# Altium footprint library Actel Footprints.PcbLib: 111 footprints (part 2 of 10)
Each footprint in its own frame and in the unit in brackets; x right, y up, seen from the top. Pads: shape width x height; smd on the part's side, far side on the other; paste and mask are expansions set on the pad; w line width, h text height; cw(c..) or ccw(c..) is an arc to the next point about the centre after c.
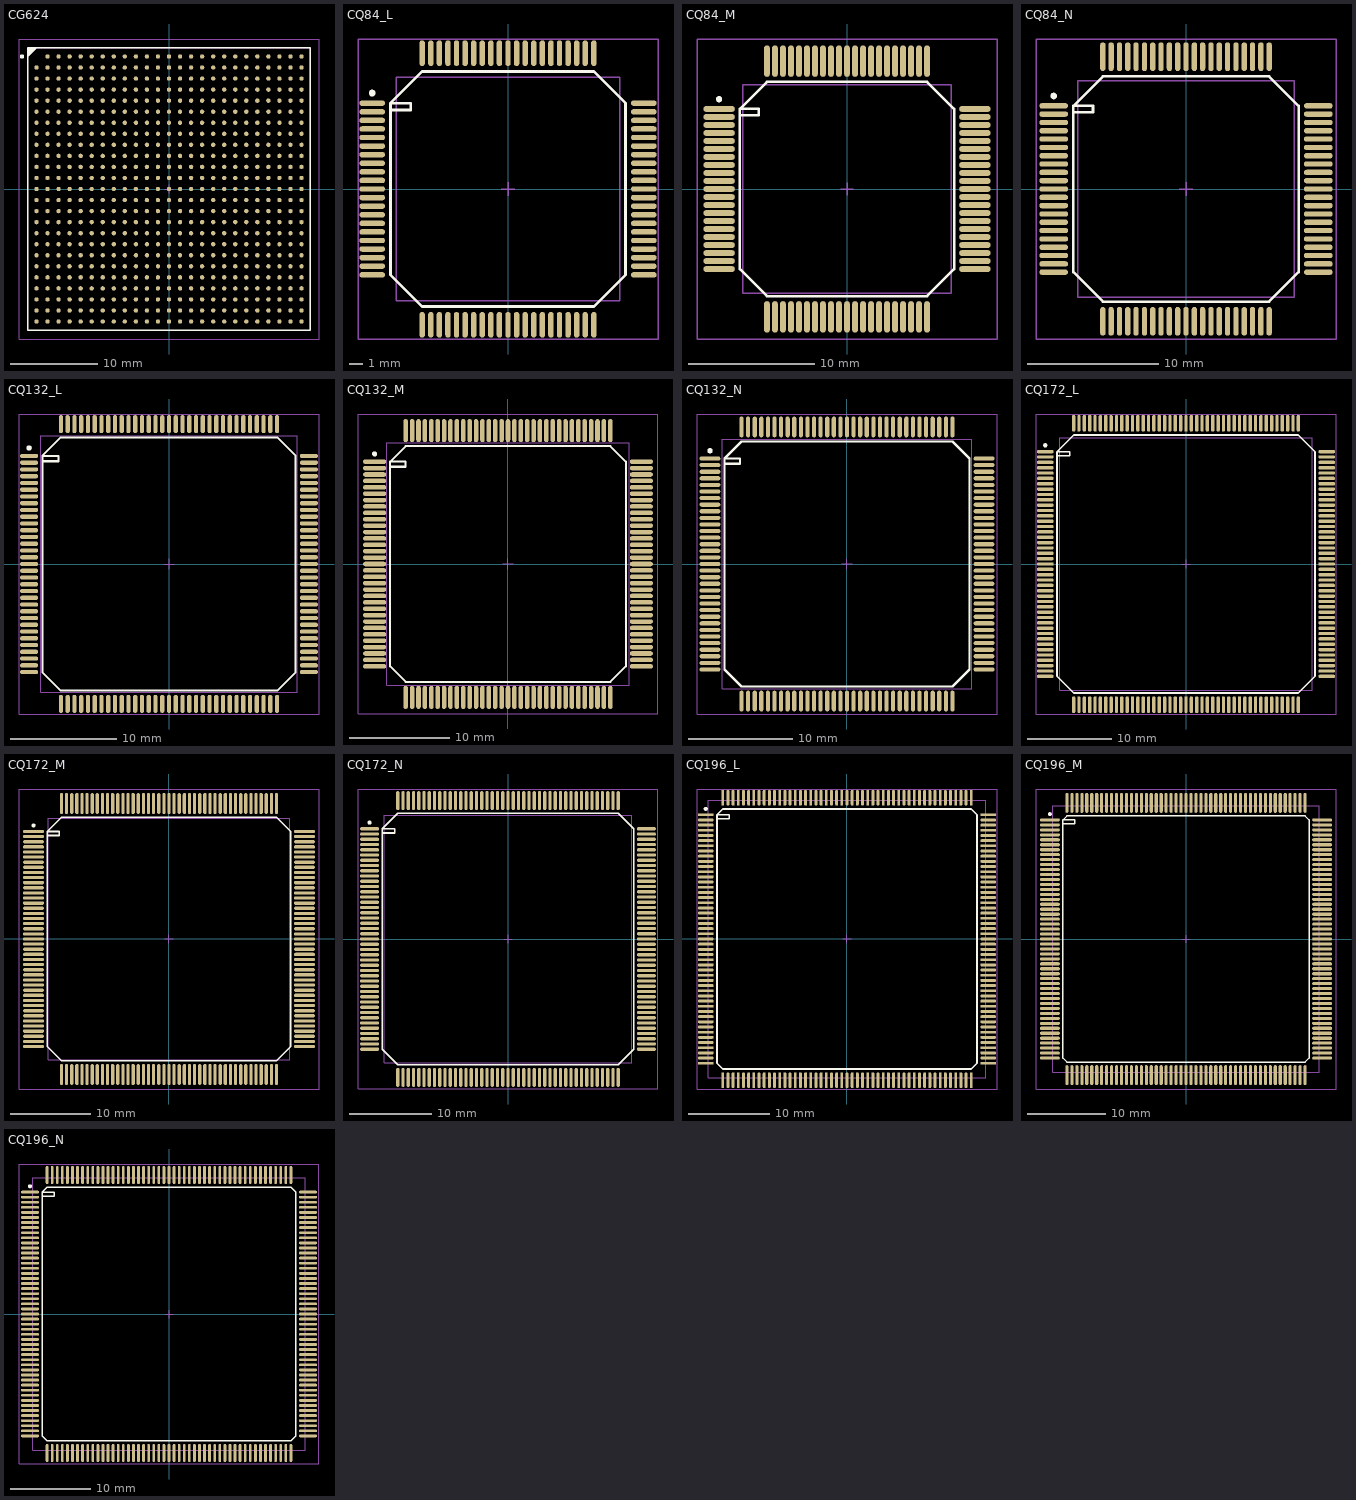
[diagram p1: the footprints below, top view; thin cyan lines are the x and y axes]

## CG624 [mm] "625-Pin Ceramic Column Grid Array 1.27 mm Pitch"
height 5.37
pads (624):
  round 0.5 smd: A2(-13.97,15.24) A3(-12.7,15.24) A4(-11.43,15.24) A5(-10.16,15.24) A6(-8.89,15.24) A7(-7.62,15.24) A8(-6.35,15.24) A9(-5.08,15.24) A10(-3.81,15.24) A11(-2.54,15.24) A12(-1.27,15.24) A13(0,15.24) A14(1.27,15.24) A15(2.54,15.24) A16(3.81,15.24) A17(5.08,15.24) A18(6.35,15.24) A19(7.62,15.24) A20(8.89,15.24) A21(10.16,15.24) A22(11.43,15.24) A23(12.7,15.24) A24(13.97,15.24) A25(15.24,15.24) AA1(-15.24,-10.16) AA2(-13.97,-10.16) AA3(-12.7,-10.16) AA4(-11.43,-10.16) AA5(-10.16,-10.16) AA6(-8.89,-10.16) AA7(-7.62,-10.16) AA8(-6.35,-10.16) AA9(-5.08,-10.16) AA10(-3.81,-10.16) AA11(-2.54,-10.16) AA12(-1.27,-10.16) AA13(0,-10.16) AA14(1.27,-10.16) AA15(2.54,-10.16) AA16(3.81,-10.16) AA17(5.08,-10.16) AA18(6.35,-10.16) AA19(7.62,-10.16) AA20(8.89,-10.16) AA21(10.16,-10.16) AA22(11.43,-10.16) AA23(12.7,-10.16) AA24(13.97,-10.16) AA25(15.24,-10.16) AB1(-15.24,-11.43) AB2(-13.97,-11.43) AB3(-12.7,-11.43) AB4(-11.43,-11.43) AB5(-10.16,-11.43) AB6(-8.89,-11.43) AB7(-7.62,-11.43) AB8(-6.35,-11.43) AB9(-5.08,-11.43) AB10(-3.81,-11.43) AB11(-2.54,-11.43) AB12(-1.27,-11.43) AB13(0,-11.43) AB14(1.27,-11.43) AB15(2.54,-11.43) AB16(3.81,-11.43) AB17(5.08,-11.43) AB18(6.35,-11.43) AB19(7.62,-11.43) AB20(8.89,-11.43) AB21(10.16,-11.43) AB22(11.43,-11.43) AB23(12.7,-11.43) AB24(13.97,-11.43) AB25(15.24,-11.43) AC1(-15.24,-12.7) AC2(-13.97,-12.7) AC3(-12.7,-12.7) AC4(-11.43,-12.7) AC5(-10.16,-12.7) AC6(-8.89,-12.7) AC7(-7.62,-12.7) AC8(-6.35,-12.7) AC9(-5.08,-12.7) AC10(-3.81,-12.7) AC11(-2.54,-12.7) AC12(-1.27,-12.7) AC13(0,-12.7) AC14(1.27,-12.7) AC15(2.54,-12.7) AC16(3.81,-12.7) AC17(5.08,-12.7) AC18(6.35,-12.7) AC19(7.62,-12.7) AC20(8.89,-12.7) AC21(10.16,-12.7) AC22(11.43,-12.7) AC23(12.7,-12.7) AC24(13.97,-12.7) AC25(15.24,-12.7) AD1(-15.24,-13.97) AD2(-13.97,-13.97) AD3(-12.7,-13.97) AD4(-11.43,-13.97) AD5(-10.16,-13.97) AD6(-8.89,-13.97) AD7(-7.62,-13.97) AD8(-6.35,-13.97) AD9(-5.08,-13.97) AD10(-3.81,-13.97) AD11(-2.54,-13.97) AD12(-1.27,-13.97) AD13(0,-13.97) AD14(1.27,-13.97) AD15(2.54,-13.97) AD16(3.81,-13.97) AD17(5.08,-13.97) AD18(6.35,-13.97) AD19(7.62,-13.97) AD20(8.89,-13.97) AD21(10.16,-13.97) AD22(11.43,-13.97) AD23(12.7,-13.97) AD24(13.97,-13.97) AD25(15.24,-13.97) AE1(-15.24,-15.24) AE2(-13.97,-15.24) AE3(-12.7,-15.24) AE4(-11.43,-15.24) AE5(-10.16,-15.24) AE6(-8.89,-15.24) AE7(-7.62,-15.24) AE8(-6.35,-15.24) AE9(-5.08,-15.24) AE10(-3.81,-15.24) AE11(-2.54,-15.24) AE12(-1.27,-15.24) AE13(0,-15.24) AE14(1.27,-15.24) AE15(2.54,-15.24) AE16(3.81,-15.24) AE17(5.08,-15.24) AE18(6.35,-15.24) AE19(7.62,-15.24) AE20(8.89,-15.24) AE21(10.16,-15.24) AE22(11.43,-15.24) AE23(12.7,-15.24) AE24(13.97,-15.24) AE25(15.24,-15.24) B1(-15.24,13.97) B2(-13.97,13.97) B3(-12.7,13.97) B4(-11.43,13.97) B5(-10.16,13.97) B6(-8.89,13.97) B7(-7.62,13.97) B8(-6.35,13.97) B9(-5.08,13.97) B10(-3.81,13.97) B11(-2.54,13.97) B12(-1.27,13.97) B13(0,13.97) B14(1.27,13.97) B15(2.54,13.97) B16(3.81,13.97) B17(5.08,13.97) B18(6.35,13.97) B19(7.62,13.97) B20(8.89,13.97) B21(10.16,13.97) B22(11.43,13.97) B23(12.7,13.97) B24(13.97,13.97) B25(15.24,13.97) C1(-15.24,12.7) C2(-13.97,12.7) C3(-12.7,12.7) C4(-11.43,12.7) C5(-10.16,12.7) C6(-8.89,12.7) C7(-7.62,12.7) C8(-6.35,12.7) C9(-5.08,12.7) C10(-3.81,12.7) C11(-2.54,12.7) C12(-1.27,12.7) C13(0,12.7) C14(1.27,12.7) C15(2.54,12.7) C16(3.81,12.7) C17(5.08,12.7) C18(6.35,12.7) C19(7.62,12.7) C20(8.89,12.7) C21(10.16,12.7) C22(11.43,12.7) C23(12.7,12.7) C24(13.97,12.7) C25(15.24,12.7) D1(-15.24,11.43) D2(-13.97,11.43) D3(-12.7,11.43) D4(-11.43,11.43) D5(-10.16,11.43) D6(-8.89,11.43) D7(-7.62,11.43) D8(-6.35,11.43) D9(-5.08,11.43) D10(-3.81,11.43) D11(-2.54,11.43) D12(-1.27,11.43) D13(0,11.43) D14(1.27,11.43) D15(2.54,11.43) D16(3.81,11.43) D17(5.08,11.43) D18(6.35,11.43) D19(7.62,11.43) D20(8.89,11.43) D21(10.16,11.43) D22(11.43,11.43) D23(12.7,11.43) D24(13.97,11.43) D25(15.24,11.43) E1(-15.24,10.16) E2(-13.97,10.16) E3(-12.7,10.16) E4(-11.43,10.16) E5(-10.16,10.16) E6(-8.89,10.16) E7(-7.62,10.16) E8(-6.35,10.16) E9(-5.08,10.16) E10(-3.81,10.16) E11(-2.54,10.16) E12(-1.27,10.16) E13(0,10.16) E14(1.27,10.16) E15(2.54,10.16) E16(3.81,10.16) E17(5.08,10.16) E18(6.35,10.16) E19(7.62,10.16) E20(8.89,10.16) E21(10.16,10.16) E22(11.43,10.16) E23(12.7,10.16) E24(13.97,10.16) E25(15.24,10.16) F1(-15.24,8.89) F2(-13.97,8.89) F3(-12.7,8.89) F4(-11.43,8.89) F5(-10.16,8.89) F6(-8.89,8.89) F7(-7.62,8.89) F8(-6.35,8.89) F9(-5.08,8.89) F10(-3.81,8.89) F11(-2.54,8.89) F12(-1.27,8.89) F13(0,8.89) F14(1.27,8.89) F15(2.54,8.89) F16(3.81,8.89) F17(5.08,8.89) F18(6.35,8.89) F19(7.62,8.89) F20(8.89,8.89) F21(10.16,8.89) F22(11.43,8.89) F23(12.7,8.89) F24(13.97,8.89) F25(15.24,8.89) G1(-15.24,7.62) G2(-13.97,7.62) G3(-12.7,7.62) G4(-11.43,7.62) G5(-10.16,7.62) G6(-8.89,7.62) G7(-7.62,7.62) G8(-6.35,7.62) G9(-5.08,7.62) G10(-3.81,7.62) G11(-2.54,7.62) G12(-1.27,7.62) G13(0,7.62) G14(1.27,7.62) G15(2.54,7.62) G16(3.81,7.62) G17(5.08,7.62) G18(6.35,7.62) G19(7.62,7.62) G20(8.89,7.62) G21(10.16,7.62) G22(11.43,7.62) G23(12.7,7.62) G24(13.97,7.62) G25(15.24,7.62) H1(-15.24,6.35) H2(-13.97,6.35) H3(-12.7,6.35) H4(-11.43,6.35) H5(-10.16,6.35) H6(-8.89,6.35) H7(-7.62,6.35) H8(-6.35,6.35) H9(-5.08,6.35) H10(-3.81,6.35) H11(-2.54,6.35) H12(-1.27,6.35) H13(0,6.35) H14(1.27,6.35) H15(2.54,6.35) H16(3.81,6.35) H17(5.08,6.35) H18(6.35,6.35) H19(7.62,6.35) H20(8.89,6.35) H21(10.16,6.35) H22(11.43,6.35) H23(12.7,6.35) H24(13.97,6.35) H25(15.24,6.35) J1(-15.24,5.08) J2(-13.97,5.08) J3(-12.7,5.08) J4(-11.43,5.08) J5(-10.16,5.08) J6(-8.89,5.08) J7(-7.62,5.08) J8(-6.35,5.08) J9(-5.08,5.08) J10(-3.81,5.08) J11(-2.54,5.08) J12(-1.27,5.08) J13(0,5.08) J14(1.27,5.08) J15(2.54,5.08) J16(3.81,5.08) J17(5.08,5.08) J18(6.35,5.08) J19(7.62,5.08) J20(8.89,5.08) J21(10.16,5.08) J22(11.43,5.08) J23(12.7,5.08) J24(13.97,5.08) J25(15.24,5.08) K1(-15.24,3.81) K2(-13.97,3.81) K3(-12.7,3.81) K4(-11.43,3.81) K5(-10.16,3.81) K6(-8.89,3.81) K7(-7.62,3.81) K8(-6.35,3.81) K9(-5.08,3.81) K10(-3.81,3.81) K11(-2.54,3.81) K12(-1.27,3.81) K13(0,3.81) K14(1.27,3.81) K15(2.54,3.81) K16(3.81,3.81) K17(5.08,3.81) K18(6.35,3.81) K19(7.62,3.81) K20(8.89,3.81) K21(10.16,3.81) K22(11.43,3.81) K23(12.7,3.81) K24(13.97,3.81) K25(15.24,3.81) L1(-15.24,2.54) L2(-13.97,2.54) L3(-12.7,2.54) L4(-11.43,2.54) L5(-10.16,2.54) L6(-8.89,2.54) L7(-7.62,2.54) L8(-6.35,2.54) L9(-5.08,2.54) L10(-3.81,2.54) L11(-2.54,2.54) L12(-1.27,2.54) L13(0,2.54) L14(1.27,2.54) L15(2.54,2.54) L16(3.81,2.54) L17(5.08,2.54) L18(6.35,2.54) L19(7.62,2.54) L20(8.89,2.54) L21(10.16,2.54) L22(11.43,2.54) L23(12.7,2.54) L24(13.97,2.54) L25(15.24,2.54) M1(-15.24,1.27) M2(-13.97,1.27) M3(-12.7,1.27) M4(-11.43,1.27) M5(-10.16,1.27) M6(-8.89,1.27) M7(-7.62,1.27) M8(-6.35,1.27) M9(-5.08,1.27) M10(-3.81,1.27) M11(-2.54,1.27) M12(-1.27,1.27) M13(0,1.27) M14(1.27,1.27) M15(2.54,1.27) M16(3.81,1.27) M17(5.08,1.27) M18(6.35,1.27) M19(7.62,1.27) M20(8.89,1.27) M21(10.16,1.27) M22(11.43,1.27) M23(12.7,1.27) M24(13.97,1.27) M25(15.24,1.27) N1(-15.24,0) N2(-13.97,0) N3(-12.7,0) N4(-11.43,0) N5(-10.16,0) N6(-8.89,0) N7(-7.62,0) N8(-6.35,0) N9(-5.08,0) N10(-3.81,0) N11(-2.54,0) N12(-1.27,0) N13(0,0) N14(1.27,0) N15(2.54,0) N16(3.81,0) N17(5.08,0) N18(6.35,0) N19(7.62,0) N20(8.89,0) N21(10.16,0) N22(11.43,0) N23(12.7,0) N24(13.97,0) N25(15.24,0) P1(-15.24,-1.27) P2(-13.97,-1.27) P3(-12.7,-1.27) P4(-11.43,-1.27) P5(-10.16,-1.27) P6(-8.89,-1.27) P7(-7.62,-1.27) P8(-6.35,-1.27) P9(-5.08,-1.27) P10(-3.81,-1.27) P11(-2.54,-1.27) P12(-1.27,-1.27) P13(0,-1.27) P14(1.27,-1.27) P15(2.54,-1.27) P16(3.81,-1.27) P17(5.08,-1.27) P18(6.35,-1.27) P19(7.62,-1.27) P20(8.89,-1.27) P21(10.16,-1.27) P22(11.43,-1.27) P23(12.7,-1.27) P24(13.97,-1.27) P25(15.24,-1.27) R1(-15.24,-2.54) R2(-13.97,-2.54) R3(-12.7,-2.54) R4(-11.43,-2.54) R5(-10.16,-2.54) R6(-8.89,-2.54) R7(-7.62,-2.54) R8(-6.35,-2.54) R9(-5.08,-2.54) R10(-3.81,-2.54) R11(-2.54,-2.54) R12(-1.27,-2.54) R13(0,-2.54) R14(1.27,-2.54) R15(2.54,-2.54) R16(3.81,-2.54) R17(5.08,-2.54) R18(6.35,-2.54) R19(7.62,-2.54) R20(8.89,-2.54) R21(10.16,-2.54) R22(11.43,-2.54) R23(12.7,-2.54) R24(13.97,-2.54) R25(15.24,-2.54) T1(-15.24,-3.81) T2(-13.97,-3.81) T3(-12.7,-3.81) T4(-11.43,-3.81) T5(-10.16,-3.81) T6(-8.89,-3.81) T7(-7.62,-3.81) T8(-6.35,-3.81) T9(-5.08,-3.81) T10(-3.81,-3.81) T11(-2.54,-3.81) T12(-1.27,-3.81) T13(0,-3.81) T14(1.27,-3.81) T15(2.54,-3.81) T16(3.81,-3.81) T17(5.08,-3.81) T18(6.35,-3.81) T19(7.62,-3.81) T20(8.89,-3.81) T21(10.16,-3.81) T22(11.43,-3.81) T23(12.7,-3.81) T24(13.97,-3.81) T25(15.24,-3.81) U1(-15.24,-5.08) U2(-13.97,-5.08) U3(-12.7,-5.08) U4(-11.43,-5.08) U5(-10.16,-5.08) U6(-8.89,-5.08) U7(-7.62,-5.08) U8(-6.35,-5.08) U9(-5.08,-5.08) U10(-3.81,-5.08) U11(-2.54,-5.08) U12(-1.27,-5.08) U13(0,-5.08) U14(1.27,-5.08) U15(2.54,-5.08) U16(3.81,-5.08) U17(5.08,-5.08) U18(6.35,-5.08) U19(7.62,-5.08) U20(8.89,-5.08) U21(10.16,-5.08) U22(11.43,-5.08) U23(12.7,-5.08) U24(13.97,-5.08) U25(15.24,-5.08) V1(-15.24,-6.35) V2(-13.97,-6.35) V3(-12.7,-6.35) V4(-11.43,-6.35) V5(-10.16,-6.35) V6(-8.89,-6.35) V7(-7.62,-6.35) V8(-6.35,-6.35) V9(-5.08,-6.35) V10(-3.81,-6.35) V11(-2.54,-6.35) V12(-1.27,-6.35) V13(0,-6.35) V14(1.27,-6.35) V15(2.54,-6.35) V16(3.81,-6.35) V17(5.08,-6.35) V18(6.35,-6.35) V19(7.62,-6.35) V20(8.89,-6.35) V21(10.16,-6.35) V22(11.43,-6.35) V23(12.7,-6.35) V24(13.97,-6.35) V25(15.24,-6.35) W1(-15.24,-7.62) W2(-13.97,-7.62) W3(-12.7,-7.62) W4(-11.43,-7.62) W5(-10.16,-7.62) W6(-8.89,-7.62) W7(-7.62,-7.62) W8(-6.35,-7.62) W9(-5.08,-7.62) W10(-3.81,-7.62) W11(-2.54,-7.62) W12(-1.27,-7.62) W13(0,-7.62) W14(1.27,-7.62) W15(2.54,-7.62) W16(3.81,-7.62) W17(5.08,-7.62) W18(6.35,-7.62) W19(7.62,-7.62) W20(8.89,-7.62) W21(10.16,-7.62) W22(11.43,-7.62) W23(12.7,-7.62) W24(13.97,-7.62) W25(15.24,-7.62) Y1(-15.24,-8.89) Y2(-13.97,-8.89) Y3(-12.7,-8.89) Y4(-11.43,-8.89) Y5(-10.16,-8.89) Y6(-8.89,-8.89) Y7(-7.62,-8.89) Y8(-6.35,-8.89) Y9(-5.08,-8.89) Y10(-3.81,-8.89) Y11(-2.54,-8.89) Y12(-1.27,-8.89) Y13(0,-8.89) Y14(1.27,-8.89) Y15(2.54,-8.89) Y16(3.81,-8.89) Y17(5.08,-8.89) Y18(6.35,-8.89) Y19(7.62,-8.89) Y20(8.89,-8.89) Y21(10.16,-8.89) Y22(11.43,-8.89) Y23(12.7,-8.89) Y24(13.97,-8.89) Y25(15.24,-8.89)
Top Overlay:
  circle w0.25: c-16.9,15.24 r0.125
  region: -15.25,16.25 -16.25,15.25 -16.25,16.25
  lines w0.2: -16.25,15.25 -15.25,16.25 ; -16.25,-16.25 -16.25,16.25 16.25,16.25 16.25,-16.25 -16.25,-16.25
Mechanical 13:
  lines w0.1: -16.25,-16.25 -16.25,16.25 16.25,16.25 16.25,-16.25 -16.25,-16.25
Mechanical 15:
  lines w0.1: -0.5,0 0.5,0 ; 0,-0.5 0,0.5 ; -17.25,-17.25 -17.25,17.25 17.25,17.25 17.25,-17.25 -17.25,-17.25
3D body: height 5.37, standoff 0, extent -16.25,-16.25 16.25,16.25

## CQ84_L [mm] "84-Pin Ceramic Quad Flat Pack (CQFP), IPC High Density"
height 2.4
pads (84):
  oval 1.9x0.4 smd: 1(-10.05,6.35) 2(-10.05,5.715) 3(-10.05,5.08) 4(-10.05,4.445) 5(-10.05,3.81) 6(-10.05,3.175) 7(-10.05,2.54) 8(-10.05,1.905) 9(-10.05,1.27) 10(-10.05,0.635) 11(-10.05,0) 12(-10.05,-0.635) 13(-10.05,-1.27) 14(-10.05,-1.905) 15(-10.05,-2.54) 16(-10.05,-3.175) 17(-10.05,-3.81) 18(-10.05,-4.445) 19(-10.05,-5.08) 20(-10.05,-5.715) 21(-10.05,-6.35) 43(10.05,-6.35) 44(10.05,-5.715) 45(10.05,-5.08) 46(10.05,-4.445) 47(10.05,-3.81) 48(10.05,-3.175) 49(10.05,-2.54) 50(10.05,-1.905) 51(10.05,-1.27) 52(10.05,-0.635) 53(10.05,0) 54(10.05,0.635) 55(10.05,1.27) 56(10.05,1.905) 57(10.05,2.54) 58(10.05,3.175) 59(10.05,3.81) 60(10.05,4.445) 61(10.05,5.08) 62(10.05,5.715) 63(10.05,6.35)
  oval 0.4x1.9 smd: 22(-6.35,-10.05) 23(-5.715,-10.05) 24(-5.08,-10.05) 25(-4.445,-10.05) 26(-3.81,-10.05) 27(-3.175,-10.05) 28(-2.54,-10.05) 29(-1.905,-10.05) 30(-1.27,-10.05) 31(-0.635,-10.05) 32(0,-10.05) 33(0.635,-10.05) 34(1.27,-10.05) 35(1.905,-10.05) 36(2.54,-10.05) 37(3.175,-10.05) 38(3.81,-10.05) 39(4.445,-10.05) 40(5.08,-10.05) 41(5.715,-10.05) 42(6.35,-10.05) 64(6.35,10.05) 65(5.715,10.05) 66(5.08,10.05) 67(4.445,10.05) 68(3.81,10.05) 69(3.175,10.05) 70(2.54,10.05) 71(1.905,10.05) 72(1.27,10.05) 73(0.635,10.05) 74(0,10.05) 75(-0.635,10.05) 76(-1.27,10.05) 77(-1.905,10.05) 78(-2.54,10.05) 79(-3.175,10.05) 80(-3.81,10.05) 81(-4.445,10.05) 82(-5.08,10.05) 83(-5.715,10.05) 84(-6.35,10.05)
Top Overlay:
  circle w0.25: c-10.05,7.1 r0.125
  lines w0.2: -8.7,5.85 -7.2,5.85 -7.2,6.35 -8.7,6.35 ; -8.7,6.35 -8.7,-6.35 -6.35,-8.7 6.35,-8.7 8.7,-6.35 8.7,6.35 6.35,8.7 -6.35,8.7 -8.7,6.35
Mechanical 13:
  lines w0.1: -8.255,-8.255 -8.255,8.255 8.255,8.255 8.255,-8.255 -8.255,-8.255
Mechanical 15:
  lines w0.1: -0.5,0 0.5,0 ; 0,-0.5 0,0.5 ; -11.1,-11.1 -11.1,11.1 11.1,11.1 11.1,-11.1 -11.1,-11.1
3D body: height 2.4, standoff 0, extent -8.255,-8.255 8.255,8.255

## CQ84_M [mm] "84-Pin Ceramic Quad Flat Pack (CQFP), IPC Low Density"
height 2.4
pads (84):
  oval 2.5x0.45 smd: 1(-10.15,6.35) 2(-10.15,5.715) 3(-10.15,5.08) 4(-10.15,4.445) 5(-10.15,3.81) 6(-10.15,3.175) 7(-10.15,2.54) 8(-10.15,1.905) 9(-10.15,1.27) 10(-10.15,0.635) 11(-10.15,0) 12(-10.15,-0.635) 13(-10.15,-1.27) 14(-10.15,-1.905) 15(-10.15,-2.54) 16(-10.15,-3.175) 17(-10.15,-3.81) 18(-10.15,-4.445) 19(-10.15,-5.08) 20(-10.15,-5.715) 21(-10.15,-6.35) 43(10.15,-6.35) 44(10.15,-5.715) 45(10.15,-5.08) 46(10.15,-4.445) 47(10.15,-3.81) 48(10.15,-3.175) 49(10.15,-2.54) 50(10.15,-1.905) 51(10.15,-1.27) 52(10.15,-0.635) 53(10.15,0) 54(10.15,0.635) 55(10.15,1.27) 56(10.15,1.905) 57(10.15,2.54) 58(10.15,3.175) 59(10.15,3.81) 60(10.15,4.445) 61(10.15,5.08) 62(10.15,5.715) 63(10.15,6.35)
  oval 0.45x2.5 smd: 22(-6.35,-10.15) 23(-5.715,-10.15) 24(-5.08,-10.15) 25(-4.445,-10.15) 26(-3.81,-10.15) 27(-3.175,-10.15) 28(-2.54,-10.15) 29(-1.905,-10.15) 30(-1.27,-10.15) 31(-0.635,-10.15) 32(0,-10.15) 33(0.635,-10.15) 34(1.27,-10.15) 35(1.905,-10.15) 36(2.54,-10.15) 37(3.175,-10.15) 38(3.81,-10.15) 39(4.445,-10.15) 40(5.08,-10.15) 41(5.715,-10.15) 42(6.35,-10.15) 64(6.35,10.15) 65(5.715,10.15) 66(5.08,10.15) 67(4.445,10.15) 68(3.81,10.15) 69(3.175,10.15) 70(2.54,10.15) 71(1.905,10.15) 72(1.27,10.15) 73(0.635,10.15) 74(0,10.15) 75(-0.635,10.15) 76(-1.27,10.15) 77(-1.905,10.15) 78(-2.54,10.15) 79(-3.175,10.15) 80(-3.81,10.15) 81(-4.445,10.15) 82(-5.08,10.15) 83(-5.715,10.15) 84(-6.35,10.15)
Top Overlay:
  circle w0.25: c-10.15,7.125 r0.125
  lines w0.2: -8.5,5.85 -7,5.85 -7,6.35 -8.5,6.35 ; -8.5,6.35 -8.5,-6.35 -6.35,-8.5 6.35,-8.5 8.5,-6.35 8.5,6.35 6.35,8.5 -6.35,8.5 -8.5,6.35
Mechanical 13:
  lines w0.1: -8.255,-8.255 -8.255,8.255 8.255,8.255 8.255,-8.255 -8.255,-8.255
Mechanical 15:
  lines w0.1: -0.5,0 0.5,0 ; 0,-0.5 0,0.5 ; -11.9,-11.9 -11.9,11.9 11.9,11.9 11.9,-11.9 -11.9,-11.9
3D body: height 2.4, standoff 0, extent -8.255,-8.255 8.255,8.255

## CQ84_N [mm] "84-Pin Ceramic Quad Flat Pack (CQFP), IPC Medium Density"
height 2.4
pads (84):
  oval 2.2x0.4 smd: 1(-10.1,6.35) 2(-10.1,5.715) 3(-10.1,5.08) 4(-10.1,4.445) 5(-10.1,3.81) 6(-10.1,3.175) 7(-10.1,2.54) 8(-10.1,1.905) 9(-10.1,1.27) 10(-10.1,0.635) 11(-10.1,0) 12(-10.1,-0.635) 13(-10.1,-1.27) 14(-10.1,-1.905) 15(-10.1,-2.54) 16(-10.1,-3.175) 17(-10.1,-3.81) 18(-10.1,-4.445) 19(-10.1,-5.08) 20(-10.1,-5.715) 21(-10.1,-6.35) 43(10.1,-6.35) 44(10.1,-5.715) 45(10.1,-5.08) 46(10.1,-4.445) 47(10.1,-3.81) 48(10.1,-3.175) 49(10.1,-2.54) 50(10.1,-1.905) 51(10.1,-1.27) 52(10.1,-0.635) 53(10.1,0) 54(10.1,0.635) 55(10.1,1.27) 56(10.1,1.905) 57(10.1,2.54) 58(10.1,3.175) 59(10.1,3.81) 60(10.1,4.445) 61(10.1,5.08) 62(10.1,5.715) 63(10.1,6.35)
  oval 0.4x2.2 smd: 22(-6.35,-10.1) 23(-5.715,-10.1) 24(-5.08,-10.1) 25(-4.445,-10.1) 26(-3.81,-10.1) 27(-3.175,-10.1) 28(-2.54,-10.1) 29(-1.905,-10.1) 30(-1.27,-10.1) 31(-0.635,-10.1) 32(0,-10.1) 33(0.635,-10.1) 34(1.27,-10.1) 35(1.905,-10.1) 36(2.54,-10.1) 37(3.175,-10.1) 38(3.81,-10.1) 39(4.445,-10.1) 40(5.08,-10.1) 41(5.715,-10.1) 42(6.35,-10.1) 64(6.35,10.1) 65(5.715,10.1) 66(5.08,10.1) 67(4.445,10.1) 68(3.81,10.1) 69(3.175,10.1) 70(2.54,10.1) 71(1.905,10.1) 72(1.27,10.1) 73(0.635,10.1) 74(0,10.1) 75(-0.635,10.1) 76(-1.27,10.1) 77(-1.905,10.1) 78(-2.54,10.1) 79(-3.175,10.1) 80(-3.81,10.1) 81(-4.445,10.1) 82(-5.08,10.1) 83(-5.715,10.1) 84(-6.35,10.1)
Top Overlay:
  circle w0.25: c-10.1,7.1 r0.125
  lines w0.2: -8.6,5.85 -7.1,5.85 -7.1,6.35 -8.6,6.35 ; -8.6,6.35 -8.6,-6.35 -6.35,-8.6 6.35,-8.6 8.6,-6.35 8.6,6.35 6.35,8.6 -6.35,8.6 -8.6,6.35
Mechanical 13:
  lines w0.1: -8.255,-8.255 -8.255,8.255 8.255,8.255 8.255,-8.255 -8.255,-8.255
Mechanical 15:
  lines w0.1: -0.5,0 0.5,0 ; 0,-0.5 0,0.5 ; -11.45,-11.45 -11.45,11.45 11.45,11.45 11.45,-11.45 -11.45,-11.45
3D body: height 2.4, standoff 0, extent -8.255,-8.255 8.255,8.255

## CQ132_L [mm] "132-Pin Ceramic Quad Flat Pack (CQFP), IPC High Density"
height 3
pads (132):
  oval 1.7x0.4 smd: 1(-13.15,10.16) 2(-13.15,9.525) 3(-13.15,8.89) 4(-13.15,8.255) 5(-13.15,7.62) 6(-13.15,6.985) 7(-13.15,6.35) 8(-13.15,5.715) 9(-13.15,5.08) 10(-13.15,4.445) 11(-13.15,3.81) 12(-13.15,3.175) 13(-13.15,2.54) 14(-13.15,1.905) 15(-13.15,1.27) 16(-13.15,0.635) 17(-13.15,0) 18(-13.15,-0.635) 19(-13.15,-1.27) 20(-13.15,-1.905) 21(-13.15,-2.54) 22(-13.15,-3.175) 23(-13.15,-3.81) 24(-13.15,-4.445) 25(-13.15,-5.08) 26(-13.15,-5.715) 27(-13.15,-6.35) 28(-13.15,-6.985) 29(-13.15,-7.62) 30(-13.15,-8.255) 31(-13.15,-8.89) 32(-13.15,-9.525) 33(-13.15,-10.16) 67(13.15,-10.16) 68(13.15,-9.525) 69(13.15,-8.89) 70(13.15,-8.255) 71(13.15,-7.62) 72(13.15,-6.985) 73(13.15,-6.35) 74(13.15,-5.715) 75(13.15,-5.08) 76(13.15,-4.445) 77(13.15,-3.81) 78(13.15,-3.175) 79(13.15,-2.54) 80(13.15,-1.905) 81(13.15,-1.27) 82(13.15,-0.635) 83(13.15,0) 84(13.15,0.635) 85(13.15,1.27) 86(13.15,1.905) 87(13.15,2.54) 88(13.15,3.175) 89(13.15,3.81) 90(13.15,4.445) 91(13.15,5.08) 92(13.15,5.715) 93(13.15,6.35) 94(13.15,6.985) 95(13.15,7.62) 96(13.15,8.255) 97(13.15,8.89) 98(13.15,9.525) 99(13.15,10.16)
  oval 0.4x1.7 smd: 34(-10.16,-13.15) 35(-9.525,-13.15) 36(-8.89,-13.15) 37(-8.255,-13.15) 38(-7.62,-13.15) 39(-6.985,-13.15) 40(-6.35,-13.15) 41(-5.715,-13.15) 42(-5.08,-13.15) 43(-4.445,-13.15) 44(-3.81,-13.15) 45(-3.175,-13.15) 46(-2.54,-13.15) 47(-1.905,-13.15) 48(-1.27,-13.15) 49(-0.635,-13.15) 50(0,-13.15) 51(0.635,-13.15) 52(1.27,-13.15) 53(1.905,-13.15) 54(2.54,-13.15) 55(3.175,-13.15) 56(3.81,-13.15) 57(4.445,-13.15) 58(5.08,-13.15) 59(5.715,-13.15) 60(6.35,-13.15) 61(6.985,-13.15) 62(7.62,-13.15) 63(8.255,-13.15) 64(8.89,-13.15) 65(9.525,-13.15) 66(10.16,-13.15) 100(10.16,13.15) 101(9.525,13.15) 102(8.89,13.15) 103(8.255,13.15) 104(7.62,13.15) 105(6.985,13.15) 106(6.35,13.15) 107(5.715,13.15) 108(5.08,13.15) 109(4.445,13.15) 110(3.81,13.15) 111(3.175,13.15) 112(2.54,13.15) 113(1.905,13.15) 114(1.27,13.15) 115(0.635,13.15) 116(0,13.15) 117(-0.635,13.15) 118(-1.27,13.15) 119(-1.905,13.15) 120(-2.54,13.15) 121(-3.175,13.15) 122(-3.81,13.15) 123(-4.445,13.15) 124(-5.08,13.15) 125(-5.715,13.15) 126(-6.35,13.15) 127(-6.985,13.15) 128(-7.62,13.15) 129(-8.255,13.15) 130(-8.89,13.15) 131(-9.525,13.15) 132(-10.16,13.15)
Top Overlay:
  circle w0.25: c-13.15,10.91 r0.125
  lines w0.2: -11.9,9.66 -10.4,9.66 -10.4,10.16 -11.9,10.16 ; -11.9,10.16 -10.16,11.9 10.16,11.9 11.9,10.16 11.9,-10.16 10.16,-11.9 -10.16,-11.9 -11.9,-10.16 -11.9,10.16
Mechanical 13:
  lines w0.1: -12.035,-12.035 12.035,-12.035 12.035,12.035 -12.035,12.035 -12.035,-12.035
Mechanical 15:
  lines w0.1: -0.5,0 0.5,0 ; 0,-0.5 0,0.5 ; -14.1,-14.1 14.1,-14.1 14.1,14.1 -14.1,14.1 -14.1,-14.1
3D body: height 3, standoff 0, extent -12.035,-12.035 12.035,12.035

## CQ132_M [mm] "132-Pin Ceramic Quad Flat Pack (CQFP), IPC Low Density"
height 3
pads (132):
  oval 2.3x0.45 smd: 1(-13.25,10.16) 2(-13.25,9.525) 3(-13.25,8.89) 4(-13.25,8.255) 5(-13.25,7.62) 6(-13.25,6.985) 7(-13.25,6.35) 8(-13.25,5.715) 9(-13.25,5.08) 10(-13.25,4.445) 11(-13.25,3.81) 12(-13.25,3.175) 13(-13.25,2.54) 14(-13.25,1.905) 15(-13.25,1.27) 16(-13.25,0.635) 17(-13.25,0) 18(-13.25,-0.635) 19(-13.25,-1.27) 20(-13.25,-1.905) 21(-13.25,-2.54) 22(-13.25,-3.175) 23(-13.25,-3.81) 24(-13.25,-4.445) 25(-13.25,-5.08) 26(-13.25,-5.715) 27(-13.25,-6.35) 28(-13.25,-6.985) 29(-13.25,-7.62) 30(-13.25,-8.255) 31(-13.25,-8.89) 32(-13.25,-9.525) 33(-13.25,-10.16) 67(13.25,-10.16) 68(13.25,-9.525) 69(13.25,-8.89) 70(13.25,-8.255) 71(13.25,-7.62) 72(13.25,-6.985) 73(13.25,-6.35) 74(13.25,-5.715) 75(13.25,-5.08) 76(13.25,-4.445) 77(13.25,-3.81) 78(13.25,-3.175) 79(13.25,-2.54) 80(13.25,-1.905) 81(13.25,-1.27) 82(13.25,-0.635) 83(13.25,0) 84(13.25,0.635) 85(13.25,1.27) 86(13.25,1.905) 87(13.25,2.54) 88(13.25,3.175) 89(13.25,3.81) 90(13.25,4.445) 91(13.25,5.08) 92(13.25,5.715) 93(13.25,6.35) 94(13.25,6.985) 95(13.25,7.62) 96(13.25,8.255) 97(13.25,8.89) 98(13.25,9.525) 99(13.25,10.16)
  oval 0.45x2.3 smd: 34(-10.16,-13.25) 35(-9.525,-13.25) 36(-8.89,-13.25) 37(-8.255,-13.25) 38(-7.62,-13.25) 39(-6.985,-13.25) 40(-6.35,-13.25) 41(-5.715,-13.25) 42(-5.08,-13.25) 43(-4.445,-13.25) 44(-3.81,-13.25) 45(-3.175,-13.25) 46(-2.54,-13.25) 47(-1.905,-13.25) 48(-1.27,-13.25) 49(-0.635,-13.25) 50(0,-13.25) 51(0.635,-13.25) 52(1.27,-13.25) 53(1.905,-13.25) 54(2.54,-13.25) 55(3.175,-13.25) 56(3.81,-13.25) 57(4.445,-13.25) 58(5.08,-13.25) 59(5.715,-13.25) 60(6.35,-13.25) 61(6.985,-13.25) 62(7.62,-13.25) 63(8.255,-13.25) 64(8.89,-13.25) 65(9.525,-13.25) 66(10.16,-13.25) 100(10.16,13.25) 101(9.525,13.25) 102(8.89,13.25) 103(8.255,13.25) 104(7.62,13.25) 105(6.985,13.25) 106(6.35,13.25) 107(5.715,13.25) 108(5.08,13.25) 109(4.445,13.25) 110(3.81,13.25) 111(3.175,13.25) 112(2.54,13.25) 113(1.905,13.25) 114(1.27,13.25) 115(0.635,13.25) 116(0,13.25) 117(-0.635,13.25) 118(-1.27,13.25) 119(-1.905,13.25) 120(-2.54,13.25) 121(-3.175,13.25) 122(-3.81,13.25) 123(-4.445,13.25) 124(-5.08,13.25) 125(-5.715,13.25) 126(-6.35,13.25) 127(-6.985,13.25) 128(-7.62,13.25) 129(-8.255,13.25) 130(-8.89,13.25) 131(-9.525,13.25) 132(-10.16,13.25)
Top Overlay:
  circle w0.25: c-13.25,10.935 r0.125
  lines w0.2: -11.7,9.66 -10.2,9.66 -10.2,10.16 -11.7,10.16 ; -11.7,10.16 -10.16,11.7 10.16,11.7 11.7,10.16 11.7,-10.16 10.16,-11.7 -10.16,-11.7 -11.7,-10.16 -11.7,10.16
Mechanical 13:
  lines w0.1: -12.035,-12.035 12.035,-12.035 12.035,12.035 -12.035,12.035 -12.035,-12.035
Mechanical 15:
  lines w0.1: -0.5,0 0.5,0 ; 0,-0.5 0,0.5 ; -14.9,-14.9 14.9,-14.9 14.9,14.9 -14.9,14.9 -14.9,-14.9
3D body: height 3, standoff 0, extent -12.035,-12.035 12.035,12.035

## CQ132_N [mm] "132-Pin Ceramic Quad Flat Pack (CQFP), IPC Medium Density"
height 3
pads (132):
  oval 2x0.4 smd: 1(-13.2,10.16) 2(-13.2,9.525) 3(-13.2,8.89) 4(-13.2,8.255) 5(-13.2,7.62) 6(-13.2,6.985) 7(-13.2,6.35) 8(-13.2,5.715) 9(-13.2,5.08) 10(-13.2,4.445) 11(-13.2,3.81) 12(-13.2,3.175) 13(-13.2,2.54) 14(-13.2,1.905) 15(-13.2,1.27) 16(-13.2,0.635) 17(-13.2,0) 18(-13.2,-0.635) 19(-13.2,-1.27) 20(-13.2,-1.905) 21(-13.2,-2.54) 22(-13.2,-3.175) 23(-13.2,-3.81) 24(-13.2,-4.445) 25(-13.2,-5.08) 26(-13.2,-5.715) 27(-13.2,-6.35) 28(-13.2,-6.985) 29(-13.2,-7.62) 30(-13.2,-8.255) 31(-13.2,-8.89) 32(-13.2,-9.525) 33(-13.2,-10.16) 67(13.2,-10.16) 68(13.2,-9.525) 69(13.2,-8.89) 70(13.2,-8.255) 71(13.2,-7.62) 72(13.2,-6.985) 73(13.2,-6.35) 74(13.2,-5.715) 75(13.2,-5.08) 76(13.2,-4.445) 77(13.2,-3.81) 78(13.2,-3.175) 79(13.2,-2.54) 80(13.2,-1.905) 81(13.2,-1.27) 82(13.2,-0.635) 83(13.2,0) 84(13.2,0.635) 85(13.2,1.27) 86(13.2,1.905) 87(13.2,2.54) 88(13.2,3.175) 89(13.2,3.81) 90(13.2,4.445) 91(13.2,5.08) 92(13.2,5.715) 93(13.2,6.35) 94(13.2,6.985) 95(13.2,7.62) 96(13.2,8.255) 97(13.2,8.89) 98(13.2,9.525) 99(13.2,10.16)
  oval 0.4x2 smd: 34(-10.16,-13.2) 35(-9.525,-13.2) 36(-8.89,-13.2) 37(-8.255,-13.2) 38(-7.62,-13.2) 39(-6.985,-13.2) 40(-6.35,-13.2) 41(-5.715,-13.2) 42(-5.08,-13.2) 43(-4.445,-13.2) 44(-3.81,-13.2) 45(-3.175,-13.2) 46(-2.54,-13.2) 47(-1.905,-13.2) 48(-1.27,-13.2) 49(-0.635,-13.2) 50(0,-13.2) 51(0.635,-13.2) 52(1.27,-13.2) 53(1.905,-13.2) 54(2.54,-13.2) 55(3.175,-13.2) 56(3.81,-13.2) 57(4.445,-13.2) 58(5.08,-13.2) 59(5.715,-13.2) 60(6.35,-13.2) 61(6.985,-13.2) 62(7.62,-13.2) 63(8.255,-13.2) 64(8.89,-13.2) 65(9.525,-13.2) 66(10.16,-13.2) 100(10.16,13.2) 101(9.525,13.2) 102(8.89,13.2) 103(8.255,13.2) 104(7.62,13.2) 105(6.985,13.2) 106(6.35,13.2) 107(5.715,13.2) 108(5.08,13.2) 109(4.445,13.2) 110(3.81,13.2) 111(3.175,13.2) 112(2.54,13.2) 113(1.905,13.2) 114(1.27,13.2) 115(0.635,13.2) 116(0,13.2) 117(-0.635,13.2) 118(-1.27,13.2) 119(-1.905,13.2) 120(-2.54,13.2) 121(-3.175,13.2) 122(-3.81,13.2) 123(-4.445,13.2) 124(-5.08,13.2) 125(-5.715,13.2) 126(-6.35,13.2) 127(-6.985,13.2) 128(-7.62,13.2) 129(-8.255,13.2) 130(-8.89,13.2) 131(-9.525,13.2) 132(-10.16,13.2)
Top Overlay:
  circle w0.25: c-13.2,10.91 r0.125
  lines w0.2: -11.8,9.66 -10.3,9.66 -10.3,10.16 -11.8,10.16 ; -11.8,10.16 -10.16,11.8 10.16,11.8 11.8,10.16 11.8,-10.16 10.16,-11.8 -10.16,-11.8 -11.8,-10.16 -11.8,10.16
Mechanical 13:
  lines w0.1: -12.035,-12.035 12.035,-12.035 12.035,12.035 -12.035,12.035 -12.035,-12.035
Mechanical 15:
  lines w0.1: -0.5,0 0.5,0 ; 0,-0.5 0,0.5 ; -14.45,-14.45 14.45,-14.45 14.45,14.45 -14.45,14.45 -14.45,-14.45
3D body: height 3, standoff 0, extent -12.035,-12.035 12.035,12.035

## CQ172_L [mm] "172-Pin Ceramic Quad Flat Pack (CQFP), IPC High Density"
height 3
pads (172):
  oval 2x0.4 smd: 1(-16.7,13.335) 2(-16.7,12.7) 3(-16.7,12.065) 4(-16.7,11.43) 5(-16.7,10.795) 6(-16.7,10.16) 7(-16.7,9.525) 8(-16.7,8.89) 9(-16.7,8.255) 10(-16.7,7.62) 11(-16.7,6.985) 12(-16.7,6.35) 13(-16.7,5.715) 14(-16.7,5.08) 15(-16.7,4.445) 16(-16.7,3.81) 17(-16.7,3.175) 18(-16.7,2.54) 19(-16.7,1.905) 20(-16.7,1.27) 21(-16.7,0.635) 22(-16.7,0) 23(-16.7,-0.635) 24(-16.7,-1.27) 25(-16.7,-1.905) 26(-16.7,-2.54) 27(-16.7,-3.175) 28(-16.7,-3.81) 29(-16.7,-4.445) 30(-16.7,-5.08) 31(-16.7,-5.715) 32(-16.7,-6.35) 33(-16.7,-6.985) 34(-16.7,-7.62) 35(-16.7,-8.255) 36(-16.7,-8.89) 37(-16.7,-9.525) 38(-16.7,-10.16) 39(-16.7,-10.795) 40(-16.7,-11.43) 41(-16.7,-12.065) 42(-16.7,-12.7) 43(-16.7,-13.335) 87(16.7,-13.335) 88(16.7,-12.7) 89(16.7,-12.065) 90(16.7,-11.43) 91(16.7,-10.795) 92(16.7,-10.16) 93(16.7,-9.525) 94(16.7,-8.89) 95(16.7,-8.255) 96(16.7,-7.62) 97(16.7,-6.985) 98(16.7,-6.35) 99(16.7,-5.715) 100(16.7,-5.08) 101(16.7,-4.445) 102(16.7,-3.81) 103(16.7,-3.175) 104(16.7,-2.54) 105(16.7,-1.905) 106(16.7,-1.27) 107(16.7,-0.635) 108(16.7,0) 109(16.7,0.635) 110(16.7,1.27) 111(16.7,1.905) 112(16.7,2.54) 113(16.7,3.175) 114(16.7,3.81) 115(16.7,4.445) 116(16.7,5.08) 117(16.7,5.715) 118(16.7,6.35) 119(16.7,6.985) 120(16.7,7.62) 121(16.7,8.255) 122(16.7,8.89) 123(16.7,9.525) 124(16.7,10.16) 125(16.7,10.795) 126(16.7,11.43) 127(16.7,12.065) 128(16.7,12.7) 129(16.7,13.335)
  oval 0.4x2 smd: 44(-13.335,-16.7) 45(-12.7,-16.7) 46(-12.065,-16.7) 47(-11.43,-16.7) 48(-10.795,-16.7) 49(-10.16,-16.7) 50(-9.525,-16.7) 51(-8.89,-16.7) 52(-8.255,-16.7) 53(-7.62,-16.7) 54(-6.985,-16.7) 55(-6.35,-16.7) 56(-5.715,-16.7) 57(-5.08,-16.7) 58(-4.445,-16.7) 59(-3.81,-16.7) 60(-3.175,-16.7) 61(-2.54,-16.7) 62(-1.905,-16.7) 63(-1.27,-16.7) 64(-0.635,-16.7) 65(0,-16.7) 66(0.635,-16.7) 67(1.27,-16.7) 68(1.905,-16.7) 69(2.54,-16.7) 70(3.175,-16.7) 71(3.81,-16.7) 72(4.445,-16.7) 73(5.08,-16.7) 74(5.715,-16.7) 75(6.35,-16.7) 76(6.985,-16.7) 77(7.62,-16.7) 78(8.255,-16.7) 79(8.89,-16.7) 80(9.525,-16.7) 81(10.16,-16.7) 82(10.795,-16.7) 83(11.43,-16.7) 84(12.065,-16.7) 85(12.7,-16.7) 86(13.335,-16.7) 130(13.335,16.7) 131(12.7,16.7) 132(12.065,16.7) 133(11.43,16.7) 134(10.795,16.7) 135(10.16,16.7) 136(9.525,16.7) 137(8.89,16.7) 138(8.255,16.7) 139(7.62,16.7) 140(6.985,16.7) 141(6.35,16.7) 142(5.715,16.7) 143(5.08,16.7) 144(4.445,16.7) 145(3.81,16.7) 146(3.175,16.7) 147(2.54,16.7) 148(1.905,16.7) 149(1.27,16.7) 150(0.635,16.7) 151(0,16.7) 152(-0.635,16.7) 153(-1.27,16.7) 154(-1.905,16.7) 155(-2.54,16.7) 156(-3.175,16.7) 157(-3.81,16.7) 158(-4.445,16.7) 159(-5.08,16.7) 160(-5.715,16.7) 161(-6.35,16.7) 162(-6.985,16.7) 163(-7.62,16.7) 164(-8.255,16.7) 165(-8.89,16.7) 166(-9.525,16.7) 167(-10.16,16.7) 168(-10.795,16.7) 169(-11.43,16.7) 170(-12.065,16.7) 171(-12.7,16.7) 172(-13.335,16.7)
Top Overlay:
  circle w0.25: c-16.7,14.085 r0.125
  lines w0.2: -15.3,12.835 -13.8,12.835 -13.8,13.335 -15.3,13.335 ; -15.3,13.335 -13.335,15.3 13.335,15.3 15.3,13.335 15.3,-13.335 13.335,-15.3 -13.335,-15.3 -15.3,-13.335 -15.3,13.335
Mechanical 13:
  lines w0.1: -14.985,-14.985 14.985,-14.985 14.985,14.985 -14.985,14.985 -14.985,-14.985
Mechanical 15:
  lines w0.1: -0.5,0 0.5,0 ; 0,-0.5 0,0.5 ; -17.8,-17.8 17.8,-17.8 17.8,17.8 -17.8,17.8 -17.8,-17.8
3D body: height 3, standoff 0, extent -14.985,-14.985 14.985,14.985

## CQ172_M [mm] "172-Pin Ceramic Quad Flat Pack (CQFP), IPC Low Density"
height 3
pads (172):
  oval 2.6x0.4 smd: 1(-16.8,13.335) 2(-16.8,12.7) 3(-16.8,12.065) 4(-16.8,11.43) 5(-16.8,10.795) 6(-16.8,10.16) 7(-16.8,9.525) 8(-16.8,8.89) 9(-16.8,8.255) 10(-16.8,7.62) 11(-16.8,6.985) 12(-16.8,6.35) 13(-16.8,5.715) 14(-16.8,5.08) 15(-16.8,4.445) 16(-16.8,3.81) 17(-16.8,3.175) 18(-16.8,2.54) 19(-16.8,1.905) 20(-16.8,1.27) 21(-16.8,0.635) 22(-16.8,0) 23(-16.8,-0.635) 24(-16.8,-1.27) 25(-16.8,-1.905) 26(-16.8,-2.54) 27(-16.8,-3.175) 28(-16.8,-3.81) 29(-16.8,-4.445) 30(-16.8,-5.08) 31(-16.8,-5.715) 32(-16.8,-6.35) 33(-16.8,-6.985) 34(-16.8,-7.62) 35(-16.8,-8.255) 36(-16.8,-8.89) 37(-16.8,-9.525) 38(-16.8,-10.16) 39(-16.8,-10.795) 40(-16.8,-11.43) 41(-16.8,-12.065) 42(-16.8,-12.7) 43(-16.8,-13.335) 87(16.8,-13.335) 88(16.8,-12.7) 89(16.8,-12.065) 90(16.8,-11.43) 91(16.8,-10.795) 92(16.8,-10.16) 93(16.8,-9.525) 94(16.8,-8.89) 95(16.8,-8.255) 96(16.8,-7.62) 97(16.8,-6.985) 98(16.8,-6.35) 99(16.8,-5.715) 100(16.8,-5.08) 101(16.8,-4.445) 102(16.8,-3.81) 103(16.8,-3.175) 104(16.8,-2.54) 105(16.8,-1.905) 106(16.8,-1.27) 107(16.8,-0.635) 108(16.8,0) 109(16.8,0.635) 110(16.8,1.27) 111(16.8,1.905) 112(16.8,2.54) 113(16.8,3.175) 114(16.8,3.81) 115(16.8,4.445) 116(16.8,5.08) 117(16.8,5.715) 118(16.8,6.35) 119(16.8,6.985) 120(16.8,7.62) 121(16.8,8.255) 122(16.8,8.89) 123(16.8,9.525) 124(16.8,10.16) 125(16.8,10.795) 126(16.8,11.43) 127(16.8,12.065) 128(16.8,12.7) 129(16.8,13.335)
  oval 0.4x2.6 smd: 44(-13.335,-16.8) 45(-12.7,-16.8) 46(-12.065,-16.8) 47(-11.43,-16.8) 48(-10.795,-16.8) 49(-10.16,-16.8) 50(-9.525,-16.8) 51(-8.89,-16.8) 52(-8.255,-16.8) 53(-7.62,-16.8) 54(-6.985,-16.8) 55(-6.35,-16.8) 56(-5.715,-16.8) 57(-5.08,-16.8) 58(-4.445,-16.8) 59(-3.81,-16.8) 60(-3.175,-16.8) 61(-2.54,-16.8) 62(-1.905,-16.8) 63(-1.27,-16.8) 64(-0.635,-16.8) 65(0,-16.8) 66(0.635,-16.8) 67(1.27,-16.8) 68(1.905,-16.8) 69(2.54,-16.8) 70(3.175,-16.8) 71(3.81,-16.8) 72(4.445,-16.8) 73(5.08,-16.8) 74(5.715,-16.8) 75(6.35,-16.8) 76(6.985,-16.8) 77(7.62,-16.8) 78(8.255,-16.8) 79(8.89,-16.8) 80(9.525,-16.8) 81(10.16,-16.8) 82(10.795,-16.8) 83(11.43,-16.8) 84(12.065,-16.8) 85(12.7,-16.8) 86(13.335,-16.8) 130(13.335,16.8) 131(12.7,16.8) 132(12.065,16.8) 133(11.43,16.8) 134(10.795,16.8) 135(10.16,16.8) 136(9.525,16.8) 137(8.89,16.8) 138(8.255,16.8) 139(7.62,16.8) 140(6.985,16.8) 141(6.35,16.8) 142(5.715,16.8) 143(5.08,16.8) 144(4.445,16.8) 145(3.81,16.8) 146(3.175,16.8) 147(2.54,16.8) 148(1.905,16.8) 149(1.27,16.8) 150(0.635,16.8) 151(0,16.8) 152(-0.635,16.8) 153(-1.27,16.8) 154(-1.905,16.8) 155(-2.54,16.8) 156(-3.175,16.8) 157(-3.81,16.8) 158(-4.445,16.8) 159(-5.08,16.8) 160(-5.715,16.8) 161(-6.35,16.8) 162(-6.985,16.8) 163(-7.62,16.8) 164(-8.255,16.8) 165(-8.89,16.8) 166(-9.525,16.8) 167(-10.16,16.8) 168(-10.795,16.8) 169(-11.43,16.8) 170(-12.065,16.8) 171(-12.7,16.8) 172(-13.335,16.8)
Top Overlay:
  circle w0.25: c-16.8,14.085 r0.125
  lines w0.2: -15.1,12.835 -13.6,12.835 -13.6,13.335 -15.1,13.335 ; -15.1,13.335 -13.335,15.1 13.335,15.1 15.1,13.335 15.1,-13.335 13.335,-15.1 -13.335,-15.1 -15.1,-13.335 -15.1,13.335
Mechanical 13:
  lines w0.1: -14.985,-14.985 14.985,-14.985 14.985,14.985 -14.985,14.985 -14.985,-14.985
Mechanical 15:
  lines w0.1: -0.5,0 0.5,0 ; 0,-0.5 0,0.5 ; -18.6,-18.6 18.6,-18.6 18.6,18.6 -18.6,18.6 -18.6,-18.6
3D body: height 3, standoff 0, extent -14.985,-14.985 14.985,14.985

## CQ172_N [mm] "172-Pin Ceramic Quad Flat Pack (CQFP), IPC Medium Density"
height 3
pads (172):
  oval 2.3x0.4 smd: 1(-16.75,13.335) 2(-16.75,12.7) 3(-16.75,12.065) 4(-16.75,11.43) 5(-16.75,10.795) 6(-16.75,10.16) 7(-16.75,9.525) 8(-16.75,8.89) 9(-16.75,8.255) 10(-16.75,7.62) 11(-16.75,6.985) 12(-16.75,6.35) 13(-16.75,5.715) 14(-16.75,5.08) 15(-16.75,4.445) 16(-16.75,3.81) 17(-16.75,3.175) 18(-16.75,2.54) 19(-16.75,1.905) 20(-16.75,1.27) 21(-16.75,0.635) 22(-16.75,0) 23(-16.75,-0.635) 24(-16.75,-1.27) 25(-16.75,-1.905) 26(-16.75,-2.54) 27(-16.75,-3.175) 28(-16.75,-3.81) 29(-16.75,-4.445) 30(-16.75,-5.08) 31(-16.75,-5.715) 32(-16.75,-6.35) 33(-16.75,-6.985) 34(-16.75,-7.62) 35(-16.75,-8.255) 36(-16.75,-8.89) 37(-16.75,-9.525) 38(-16.75,-10.16) 39(-16.75,-10.795) 40(-16.75,-11.43) 41(-16.75,-12.065) 42(-16.75,-12.7) 43(-16.75,-13.335) 87(16.75,-13.335) 88(16.75,-12.7) 89(16.75,-12.065) 90(16.75,-11.43) 91(16.75,-10.795) 92(16.75,-10.16) 93(16.75,-9.525) 94(16.75,-8.89) 95(16.75,-8.255) 96(16.75,-7.62) 97(16.75,-6.985) 98(16.75,-6.35) 99(16.75,-5.715) 100(16.75,-5.08) 101(16.75,-4.445) 102(16.75,-3.81) 103(16.75,-3.175) 104(16.75,-2.54) 105(16.75,-1.905) 106(16.75,-1.27) 107(16.75,-0.635) 108(16.75,0) 109(16.75,0.635) 110(16.75,1.27) 111(16.75,1.905) 112(16.75,2.54) 113(16.75,3.175) 114(16.75,3.81) 115(16.75,4.445) 116(16.75,5.08) 117(16.75,5.715) 118(16.75,6.35) 119(16.75,6.985) 120(16.75,7.62) 121(16.75,8.255) 122(16.75,8.89) 123(16.75,9.525) 124(16.75,10.16) 125(16.75,10.795) 126(16.75,11.43) 127(16.75,12.065) 128(16.75,12.7) 129(16.75,13.335)
  oval 0.4x2.3 smd: 44(-13.335,-16.75) 45(-12.7,-16.75) 46(-12.065,-16.75) 47(-11.43,-16.75) 48(-10.795,-16.75) 49(-10.16,-16.75) 50(-9.525,-16.75) 51(-8.89,-16.75) 52(-8.255,-16.75) 53(-7.62,-16.75) 54(-6.985,-16.75) 55(-6.35,-16.75) 56(-5.715,-16.75) 57(-5.08,-16.75) 58(-4.445,-16.75) 59(-3.81,-16.75) 60(-3.175,-16.75) 61(-2.54,-16.75) 62(-1.905,-16.75) 63(-1.27,-16.75) 64(-0.635,-16.75) 65(0,-16.75) 66(0.635,-16.75) 67(1.27,-16.75) 68(1.905,-16.75) 69(2.54,-16.75) 70(3.175,-16.75) 71(3.81,-16.75) 72(4.445,-16.75) 73(5.08,-16.75) 74(5.715,-16.75) 75(6.35,-16.75) 76(6.985,-16.75) 77(7.62,-16.75) 78(8.255,-16.75) 79(8.89,-16.75) 80(9.525,-16.75) 81(10.16,-16.75) 82(10.795,-16.75) 83(11.43,-16.75) 84(12.065,-16.75) 85(12.7,-16.75) 86(13.335,-16.75) 130(13.335,16.75) 131(12.7,16.75) 132(12.065,16.75) 133(11.43,16.75) 134(10.795,16.75) 135(10.16,16.75) 136(9.525,16.75) 137(8.89,16.75) 138(8.255,16.75) 139(7.62,16.75) 140(6.985,16.75) 141(6.35,16.75) 142(5.715,16.75) 143(5.08,16.75) 144(4.445,16.75) 145(3.81,16.75) 146(3.175,16.75) 147(2.54,16.75) 148(1.905,16.75) 149(1.27,16.75) 150(0.635,16.75) 151(0,16.75) 152(-0.635,16.75) 153(-1.27,16.75) 154(-1.905,16.75) 155(-2.54,16.75) 156(-3.175,16.75) 157(-3.81,16.75) 158(-4.445,16.75) 159(-5.08,16.75) 160(-5.715,16.75) 161(-6.35,16.75) 162(-6.985,16.75) 163(-7.62,16.75) 164(-8.255,16.75) 165(-8.89,16.75) 166(-9.525,16.75) 167(-10.16,16.75) 168(-10.795,16.75) 169(-11.43,16.75) 170(-12.065,16.75) 171(-12.7,16.75) 172(-13.335,16.75)
Top Overlay:
  circle w0.25: c-16.75,14.085 r0.125
  lines w0.2: -15.2,12.835 -13.7,12.835 -13.7,13.335 -15.2,13.335 ; -15.2,13.335 -13.335,15.2 13.335,15.2 15.2,13.335 15.2,-13.335 13.335,-15.2 -13.335,-15.2 -15.2,-13.335 -15.2,13.335
Mechanical 13:
  lines w0.1: -14.985,-14.985 14.985,-14.985 14.985,14.985 -14.985,14.985 -14.985,-14.985
Mechanical 15:
  lines w0.1: -0.5,0 0.5,0 ; 0,-0.5 0,0.5 ; -18.15,-18.15 18.15,-18.15 18.15,18.15 -18.15,18.15 -18.15,-18.15
3D body: height 3, standoff 0, extent -14.985,-14.985 14.985,14.985

## CQ196_L [mm] "196-Pin Ceramic Quad Flat Pack (CQFP), IPC High Density"
height 2.7
pads (196):
  oval 1.95x0.35 smd: 1(-17.325,15.24) 2(-17.325,14.605) 3(-17.325,13.97) 4(-17.325,13.335) 5(-17.325,12.7) 6(-17.325,12.065) 7(-17.325,11.43) 8(-17.325,10.795) 9(-17.325,10.16) 10(-17.325,9.525) 11(-17.325,8.89) 12(-17.325,8.255) 13(-17.325,7.62) 14(-17.325,6.985) 15(-17.325,6.35) 16(-17.325,5.715) 17(-17.325,5.08) 18(-17.325,4.445) 19(-17.325,3.81) 20(-17.325,3.175) 21(-17.325,2.54) 22(-17.325,1.905) 23(-17.325,1.27) 24(-17.325,0.635) 25(-17.325,0) 26(-17.325,-0.635) 27(-17.325,-1.27) 28(-17.325,-1.905) 29(-17.325,-2.54) 30(-17.325,-3.175) 31(-17.325,-3.81) 32(-17.325,-4.445) 33(-17.325,-5.08) 34(-17.325,-5.715) 35(-17.325,-6.35) 36(-17.325,-6.985) 37(-17.325,-7.62) 38(-17.325,-8.255) 39(-17.325,-8.89) 40(-17.325,-9.525) 41(-17.325,-10.16) 42(-17.325,-10.795) 43(-17.325,-11.43) 44(-17.325,-12.065) 45(-17.325,-12.7) 46(-17.325,-13.335) 47(-17.325,-13.97) 48(-17.325,-14.605) 49(-17.325,-15.24) 99(17.325,-15.24) 100(17.325,-14.605) 101(17.325,-13.97) 102(17.325,-13.335) 103(17.325,-12.7) 104(17.325,-12.065) 105(17.325,-11.43) 106(17.325,-10.795) 107(17.325,-10.16) 108(17.325,-9.525) 109(17.325,-8.89) 110(17.325,-8.255) 111(17.325,-7.62) 112(17.325,-6.985) 113(17.325,-6.35) 114(17.325,-5.715) 115(17.325,-5.08) 116(17.325,-4.445) 117(17.325,-3.81) 118(17.325,-3.175) 119(17.325,-2.54) 120(17.325,-1.905) 121(17.325,-1.27) 122(17.325,-0.635) 123(17.325,0) 124(17.325,0.635) 125(17.325,1.27) 126(17.325,1.905) 127(17.325,2.54) 128(17.325,3.175) 129(17.325,3.81) 130(17.325,4.445) 131(17.325,5.08) 132(17.325,5.715) 133(17.325,6.35) 134(17.325,6.985) 135(17.325,7.62) 136(17.325,8.255) 137(17.325,8.89) 138(17.325,9.525) 139(17.325,10.16) 140(17.325,10.795) 141(17.325,11.43) 142(17.325,12.065) 143(17.325,12.7) 144(17.325,13.335) 145(17.325,13.97) 146(17.325,14.605) 147(17.325,15.24)
  oval 0.35x1.95 smd: 50(-15.24,-17.325) 51(-14.605,-17.325) 52(-13.97,-17.325) 53(-13.335,-17.325) 54(-12.7,-17.325) 55(-12.065,-17.325) 56(-11.43,-17.325) 57(-10.795,-17.325) 58(-10.16,-17.325) 59(-9.525,-17.325) 60(-8.89,-17.325) 61(-8.255,-17.325) 62(-7.62,-17.325) 63(-6.985,-17.325) 64(-6.35,-17.325) 65(-5.715,-17.325) 66(-5.08,-17.325) 67(-4.445,-17.325) 68(-3.81,-17.325) 69(-3.175,-17.325) 70(-2.54,-17.325) 71(-1.905,-17.325) 72(-1.27,-17.325) 73(-0.635,-17.325) 74(0,-17.325) 75(0.635,-17.325) 76(1.27,-17.325) 77(1.905,-17.325) 78(2.54,-17.325) 79(3.175,-17.325) 80(3.81,-17.325) 81(4.445,-17.325) 82(5.08,-17.325) 83(5.715,-17.325) 84(6.35,-17.325) 85(6.985,-17.325) 86(7.62,-17.325) 87(8.255,-17.325) 88(8.89,-17.325) 89(9.525,-17.325) 90(10.16,-17.325) 91(10.795,-17.325) 92(11.43,-17.325) 93(12.065,-17.325) 94(12.7,-17.325) 95(13.335,-17.325) 96(13.97,-17.325) 97(14.605,-17.325) 98(15.24,-17.325) 148(15.24,17.325) 149(14.605,17.325) 150(13.97,17.325) 151(13.335,17.325) 152(12.7,17.325) 153(12.065,17.325) 154(11.43,17.325) 155(10.795,17.325) 156(10.16,17.325) 157(9.525,17.325) 158(8.89,17.325) 159(8.255,17.325) 160(7.62,17.325) 161(6.985,17.325) 162(6.35,17.325) 163(5.715,17.325) 164(5.08,17.325) 165(4.445,17.325) 166(3.81,17.325) 167(3.175,17.325) 168(2.54,17.325) 169(1.905,17.325) 170(1.27,17.325) 171(0.635,17.325) 172(0,17.325) 173(-0.635,17.325) 174(-1.27,17.325) 175(-1.905,17.325) 176(-2.54,17.325) 177(-3.175,17.325) 178(-3.81,17.325) 179(-4.445,17.325) 180(-5.08,17.325) 181(-5.715,17.325) 182(-6.35,17.325) 183(-6.985,17.325) 184(-7.62,17.325) 185(-8.255,17.325) 186(-8.89,17.325) 187(-9.525,17.325) 188(-10.16,17.325) 189(-10.795,17.325) 190(-11.43,17.325) 191(-12.065,17.325) 192(-12.7,17.325) 193(-13.335,17.325) 194(-13.97,17.325) 195(-14.605,17.325) 196(-15.24,17.325)
Top Overlay:
  circle w0.25: c-17.325,15.965 r0.125
  lines w0.2: -15.95,14.74 -14.45,14.74 -14.45,15.24 -15.95,15.24 ; -15.95,15.24 -15.24,15.95 15.24,15.95 15.95,15.24 15.95,-15.24 15.24,-15.95 -15.24,-15.95 -15.95,-15.24 -15.95,15.24
Mechanical 13:
  lines w0.1: -17.025,-17.025 17.025,-17.025 17.025,17.025 -17.025,17.025 -17.025,-17.025
Mechanical 15:
  lines w0.1: -0.5,0 0.5,0 ; 0,-0.5 0,0.5 ; -18.4,-18.4 18.4,-18.4 18.4,18.4 -18.4,18.4 -18.4,-18.4
3D body: height 2.7, standoff 0, extent -17.025,-17.025 17.025,17.025

## CQ196_M [mm] "196-Pin Ceramic Quad Flat Pack (CQFP), IPC Low Density"
height 2.7
pads (196):
  oval 2.55x0.4 smd: 1(-17.425,15.24) 2(-17.425,14.605) 3(-17.425,13.97) 4(-17.425,13.335) 5(-17.425,12.7) 6(-17.425,12.065) 7(-17.425,11.43) 8(-17.425,10.795) 9(-17.425,10.16) 10(-17.425,9.525) 11(-17.425,8.89) 12(-17.425,8.255) 13(-17.425,7.62) 14(-17.425,6.985) 15(-17.425,6.35) 16(-17.425,5.715) 17(-17.425,5.08) 18(-17.425,4.445) 19(-17.425,3.81) 20(-17.425,3.175) 21(-17.425,2.54) 22(-17.425,1.905) 23(-17.425,1.27) 24(-17.425,0.635) 25(-17.425,0) 26(-17.425,-0.635) 27(-17.425,-1.27) 28(-17.425,-1.905) 29(-17.425,-2.54) 30(-17.425,-3.175) 31(-17.425,-3.81) 32(-17.425,-4.445) 33(-17.425,-5.08) 34(-17.425,-5.715) 35(-17.425,-6.35) 36(-17.425,-6.985) 37(-17.425,-7.62) 38(-17.425,-8.255) 39(-17.425,-8.89) 40(-17.425,-9.525) 41(-17.425,-10.16) 42(-17.425,-10.795) 43(-17.425,-11.43) 44(-17.425,-12.065) 45(-17.425,-12.7) 46(-17.425,-13.335) 47(-17.425,-13.97) 48(-17.425,-14.605) 49(-17.425,-15.24) 99(17.425,-15.24) 100(17.425,-14.605) 101(17.425,-13.97) 102(17.425,-13.335) 103(17.425,-12.7) 104(17.425,-12.065) 105(17.425,-11.43) 106(17.425,-10.795) 107(17.425,-10.16) 108(17.425,-9.525) 109(17.425,-8.89) 110(17.425,-8.255) 111(17.425,-7.62) 112(17.425,-6.985) 113(17.425,-6.35) 114(17.425,-5.715) 115(17.425,-5.08) 116(17.425,-4.445) 117(17.425,-3.81) 118(17.425,-3.175) 119(17.425,-2.54) 120(17.425,-1.905) 121(17.425,-1.27) 122(17.425,-0.635) 123(17.425,0) 124(17.425,0.635) 125(17.425,1.27) 126(17.425,1.905) 127(17.425,2.54) 128(17.425,3.175) 129(17.425,3.81) 130(17.425,4.445) 131(17.425,5.08) 132(17.425,5.715) 133(17.425,6.35) 134(17.425,6.985) 135(17.425,7.62) 136(17.425,8.255) 137(17.425,8.89) 138(17.425,9.525) 139(17.425,10.16) 140(17.425,10.795) 141(17.425,11.43) 142(17.425,12.065) 143(17.425,12.7) 144(17.425,13.335) 145(17.425,13.97) 146(17.425,14.605) 147(17.425,15.24)
  oval 0.4x2.55 smd: 50(-15.24,-17.425) 51(-14.605,-17.425) 52(-13.97,-17.425) 53(-13.335,-17.425) 54(-12.7,-17.425) 55(-12.065,-17.425) 56(-11.43,-17.425) 57(-10.795,-17.425) 58(-10.16,-17.425) 59(-9.525,-17.425) 60(-8.89,-17.425) 61(-8.255,-17.425) 62(-7.62,-17.425) 63(-6.985,-17.425) 64(-6.35,-17.425) 65(-5.715,-17.425) 66(-5.08,-17.425) 67(-4.445,-17.425) 68(-3.81,-17.425) 69(-3.175,-17.425) 70(-2.54,-17.425) 71(-1.905,-17.425) 72(-1.27,-17.425) 73(-0.635,-17.425) 74(0,-17.425) 75(0.635,-17.425) 76(1.27,-17.425) 77(1.905,-17.425) 78(2.54,-17.425) 79(3.175,-17.425) 80(3.81,-17.425) 81(4.445,-17.425) 82(5.08,-17.425) 83(5.715,-17.425) 84(6.35,-17.425) 85(6.985,-17.425) 86(7.62,-17.425) 87(8.255,-17.425) 88(8.89,-17.425) 89(9.525,-17.425) 90(10.16,-17.425) 91(10.795,-17.425) 92(11.43,-17.425) 93(12.065,-17.425) 94(12.7,-17.425) 95(13.335,-17.425) 96(13.97,-17.425) 97(14.605,-17.425) 98(15.24,-17.425) 148(15.24,17.425) 149(14.605,17.425) 150(13.97,17.425) 151(13.335,17.425) 152(12.7,17.425) 153(12.065,17.425) 154(11.43,17.425) 155(10.795,17.425) 156(10.16,17.425) 157(9.525,17.425) 158(8.89,17.425) 159(8.255,17.425) 160(7.62,17.425) 161(6.985,17.425) 162(6.35,17.425) 163(5.715,17.425) 164(5.08,17.425) 165(4.445,17.425) 166(3.81,17.425) 167(3.175,17.425) 168(2.54,17.425) 169(1.905,17.425) 170(1.27,17.425) 171(0.635,17.425) 172(0,17.425) 173(-0.635,17.425) 174(-1.27,17.425) 175(-1.905,17.425) 176(-2.54,17.425) 177(-3.175,17.425) 178(-3.81,17.425) 179(-4.445,17.425) 180(-5.08,17.425) 181(-5.715,17.425) 182(-6.35,17.425) 183(-6.985,17.425) 184(-7.62,17.425) 185(-8.255,17.425) 186(-8.89,17.425) 187(-9.525,17.425) 188(-10.16,17.425) 189(-10.795,17.425) 190(-11.43,17.425) 191(-12.065,17.425) 192(-12.7,17.425) 193(-13.335,17.425) 194(-13.97,17.425) 195(-14.605,17.425) 196(-15.24,17.425)
Top Overlay:
  circle w0.25: c-17.425,15.99 r0.125
  lines w0.2: -15.75,14.74 -14.25,14.74 -14.25,15.24 -15.75,15.24 ; -15.75,15.24 -15.24,15.75 15.24,15.75 15.75,15.24 15.75,-15.24 15.24,-15.75 -15.24,-15.75 -15.75,-15.24 -15.75,15.24
Mechanical 13:
  lines w0.1: -17.025,-17.025 17.025,-17.025 17.025,17.025 -17.025,17.025 -17.025,-17.025
Mechanical 15:
  lines w0.1: -0.5,0 0.5,0 ; 0,-0.5 0,0.5 ; -19.2,-19.2 19.2,-19.2 19.2,19.2 -19.2,19.2 -19.2,-19.2
3D body: height 2.7, standoff 0, extent -17.025,-17.025 17.025,17.025

## CQ196_N [mm] "196-Pin Ceramic Quad Flat Pack (CQFP), IPC Medium Density"
height 2.7
pads (196):
  oval 2.25x0.35 smd: 1(-17.375,15.24) 2(-17.375,14.605) 3(-17.375,13.97) 4(-17.375,13.335) 5(-17.375,12.7) 6(-17.375,12.065) 7(-17.375,11.43) 8(-17.375,10.795) 9(-17.375,10.16) 10(-17.375,9.525) 11(-17.375,8.89) 12(-17.375,8.255) 13(-17.375,7.62) 14(-17.375,6.985) 15(-17.375,6.35) 16(-17.375,5.715) 17(-17.375,5.08) 18(-17.375,4.445) 19(-17.375,3.81) 20(-17.375,3.175) 21(-17.375,2.54) 22(-17.375,1.905) 23(-17.375,1.27) 24(-17.375,0.635) 25(-17.375,0) 26(-17.375,-0.635) 27(-17.375,-1.27) 28(-17.375,-1.905) 29(-17.375,-2.54) 30(-17.375,-3.175) 31(-17.375,-3.81) 32(-17.375,-4.445) 33(-17.375,-5.08) 34(-17.375,-5.715) 35(-17.375,-6.35) 36(-17.375,-6.985) 37(-17.375,-7.62) 38(-17.375,-8.255) 39(-17.375,-8.89) 40(-17.375,-9.525) 41(-17.375,-10.16) 42(-17.375,-10.795) 43(-17.375,-11.43) 44(-17.375,-12.065) 45(-17.375,-12.7) 46(-17.375,-13.335) 47(-17.375,-13.97) 48(-17.375,-14.605) 49(-17.375,-15.24) 99(17.375,-15.24) 100(17.375,-14.605) 101(17.375,-13.97) 102(17.375,-13.335) 103(17.375,-12.7) 104(17.375,-12.065) 105(17.375,-11.43) 106(17.375,-10.795) 107(17.375,-10.16) 108(17.375,-9.525) 109(17.375,-8.89) 110(17.375,-8.255) 111(17.375,-7.62) 112(17.375,-6.985) 113(17.375,-6.35) 114(17.375,-5.715) 115(17.375,-5.08) 116(17.375,-4.445) 117(17.375,-3.81) 118(17.375,-3.175) 119(17.375,-2.54) 120(17.375,-1.905) 121(17.375,-1.27) 122(17.375,-0.635) 123(17.375,0) 124(17.375,0.635) 125(17.375,1.27) 126(17.375,1.905) 127(17.375,2.54) 128(17.375,3.175) 129(17.375,3.81) 130(17.375,4.445) 131(17.375,5.08) 132(17.375,5.715) 133(17.375,6.35) 134(17.375,6.985) 135(17.375,7.62) 136(17.375,8.255) 137(17.375,8.89) 138(17.375,9.525) 139(17.375,10.16) 140(17.375,10.795) 141(17.375,11.43) 142(17.375,12.065) 143(17.375,12.7) 144(17.375,13.335) 145(17.375,13.97) 146(17.375,14.605) 147(17.375,15.24)
  oval 0.35x2.25 smd: 50(-15.24,-17.375) 51(-14.605,-17.375) 52(-13.97,-17.375) 53(-13.335,-17.375) 54(-12.7,-17.375) 55(-12.065,-17.375) 56(-11.43,-17.375) 57(-10.795,-17.375) 58(-10.16,-17.375) 59(-9.525,-17.375) 60(-8.89,-17.375) 61(-8.255,-17.375) 62(-7.62,-17.375) 63(-6.985,-17.375) 64(-6.35,-17.375) 65(-5.715,-17.375) 66(-5.08,-17.375) 67(-4.445,-17.375) 68(-3.81,-17.375) 69(-3.175,-17.375) 70(-2.54,-17.375) 71(-1.905,-17.375) 72(-1.27,-17.375) 73(-0.635,-17.375) 74(0,-17.375) 75(0.635,-17.375) 76(1.27,-17.375) 77(1.905,-17.375) 78(2.54,-17.375) 79(3.175,-17.375) 80(3.81,-17.375) 81(4.445,-17.375) 82(5.08,-17.375) 83(5.715,-17.375) 84(6.35,-17.375) 85(6.985,-17.375) 86(7.62,-17.375) 87(8.255,-17.375) 88(8.89,-17.375) 89(9.525,-17.375) 90(10.16,-17.375) 91(10.795,-17.375) 92(11.43,-17.375) 93(12.065,-17.375) 94(12.7,-17.375) 95(13.335,-17.375) 96(13.97,-17.375) 97(14.605,-17.375) 98(15.24,-17.375) 148(15.24,17.375) 149(14.605,17.375) 150(13.97,17.375) 151(13.335,17.375) 152(12.7,17.375) 153(12.065,17.375) 154(11.43,17.375) 155(10.795,17.375) 156(10.16,17.375) 157(9.525,17.375) 158(8.89,17.375) 159(8.255,17.375) 160(7.62,17.375) 161(6.985,17.375) 162(6.35,17.375) 163(5.715,17.375) 164(5.08,17.375) 165(4.445,17.375) 166(3.81,17.375) 167(3.175,17.375) 168(2.54,17.375) 169(1.905,17.375) 170(1.27,17.375) 171(0.635,17.375) 172(0,17.375) 173(-0.635,17.375) 174(-1.27,17.375) 175(-1.905,17.375) 176(-2.54,17.375) 177(-3.175,17.375) 178(-3.81,17.375) 179(-4.445,17.375) 180(-5.08,17.375) 181(-5.715,17.375) 182(-6.35,17.375) 183(-6.985,17.375) 184(-7.62,17.375) 185(-8.255,17.375) 186(-8.89,17.375) 187(-9.525,17.375) 188(-10.16,17.375) 189(-10.795,17.375) 190(-11.43,17.375) 191(-12.065,17.375) 192(-12.7,17.375) 193(-13.335,17.375) 194(-13.97,17.375) 195(-14.605,17.375) 196(-15.24,17.375)
Top Overlay:
  circle w0.25: c-17.375,15.965 r0.125
  lines w0.2: -15.85,14.74 -14.35,14.74 -14.35,15.24 -15.85,15.24 ; -15.85,15.24 -15.24,15.85 15.24,15.85 15.85,15.24 15.85,-15.24 15.24,-15.85 -15.24,-15.85 -15.85,-15.24 -15.85,15.24
Mechanical 13:
  lines w0.1: -17.025,-17.025 17.025,-17.025 17.025,17.025 -17.025,17.025 -17.025,-17.025
Mechanical 15:
  lines w0.1: -0.5,0 0.5,0 ; 0,-0.5 0,0.5 ; -18.75,-18.75 18.75,-18.75 18.75,18.75 -18.75,18.75 -18.75,-18.75
3D body: height 2.7, standoff 0, extent -17.025,-17.025 17.025,17.025